# EAGLE library part SPLC501C_SPI (library display-lcd)
Sunplus LCD - SPI Mode 132 x 65 Dot Matrix LCD
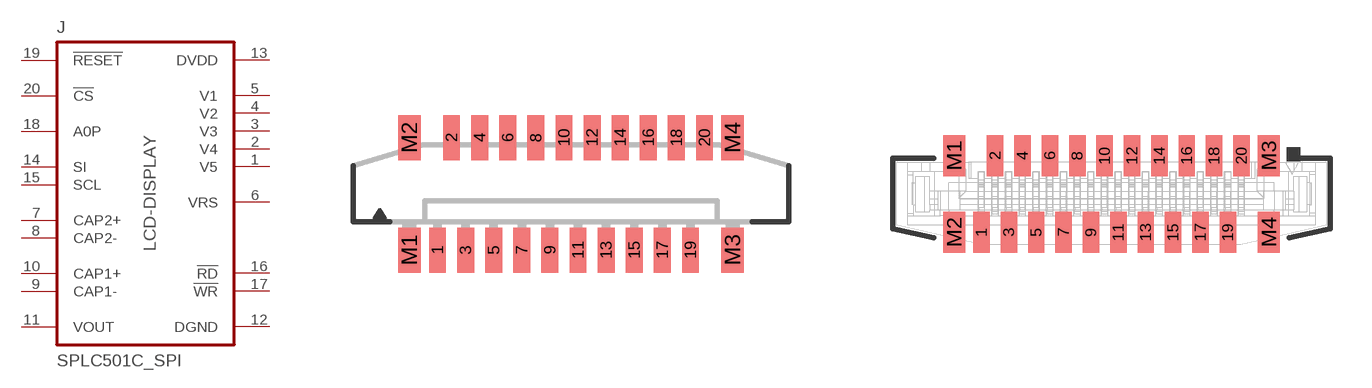
[diagram p11: symbol with the pads of 52559-2090; footprints 52559-2090, 52559-2033]

Designator prefix J

## SPLC501C_SPI52559-2090  [52559-2090]
1  V5  pas
2  V4  pas
3  V3  pas
4  V2  pas
5  V1  pas
6  VRS  pas
7  CAP2+  pas
8  CAP2-  pas
9  CAP1-  pas
10  CAP1+  pas
11  VOUT  pas
12  DGND  pas
13  DVDD  pas
14  SI  in
15  SCL  in
16  !RD!  pas
17  !WR!  pas
18  A0P  in
19  !RESET!  in
20  !CS!  in

## SPLC501C_SPI52559-2033  [52559-2033]
Pads as for 52559-2090

## SPLC501C_SPI52746-2071  [52746-2071]
Pads as for 52559-2090

## Footprint 52559-2090 (pad centres in mm)
FPC ZIF, 20 pins, pitch 0.5 MM
smd 0.6 x 1.6: 1 -4.75,-2; 2 -4.25,2; 3 -3.75,-2; 4 -3.25,2; 5 -2.75,-2; 6 -2.25,2; 7 -1.75,-2; 8 -1.25,2; 9 -0.75,-2; 10 -0.25,2; 11 0.25,-2; 12 0.75,2; 13 1.25,-2; 14 1.75,2; 15 2.25,-2; 16 2.75,2; 17 3.25,-2; 18 3.75,2; 19 4.25,-2; 20 4.75,2
smd 0.8 x 1.6: M1 -5.75,-2; M2 -5.75,2; M3 5.75,-2; M4 5.75,2

## Footprint 52559-2033 (pad centres in mm)
FFC CONNECTOR
smd 0.6 x 1.5: 1 -4.75,-1.4; 2 -4.25,1.4; 3 -3.75,-1.4; 4 -3.25,1.4; 5 -2.75,-1.4; 6 -2.25,1.4; 7 -1.75,-1.4; 8 -1.25,1.4; 9 -0.75,-1.4; 10 -0.25,1.4; 11 0.25,-1.4; 12 0.75,1.4; 13 1.25,-1.4; 14 1.75,1.4; 15 2.25,-1.4; 16 2.75,1.4; 17 3.25,-1.4; 18 3.75,1.4; 19 4.25,-1.4; 20 4.75,1.4
smd 0.8 x 1.5: M1 -5.75,1.4; M2 -5.75,-1.4; M3 5.75,1.4; M4 5.75,-1.4

## Footprint 52746-2071 (pad centres in mm)
FPC CONNECTOR
smd 0.3 x 1: 1 4.75,3.75; 2 4.25,3.75; 3 3.75,3.75; 4 3.25,3.75; 5 2.75,3.75; 6 2.25,3.75; 7 1.75,3.75; 8 1.25,3.75; 9 0.75,3.75; 10 0.25,3.75; 11 -0.25,3.75; 12 -0.75,3.75; 13 -1.25,3.75; 14 -1.75,3.75; 15 -2.25,3.75; 16 -2.75,3.75; 17 -3.25,3.75; 18 -3.75,3.75; 19 -4.25,3.75; 20 -4.75,3.75
smd 2.3 x 2: M1 -7,2.25; M2 7,2.25